# Altium integrated library Seeed-OPL-Display.IntLib: 7 symbols
Pins are listed as number, name and electrical type; pins without a type are passive.

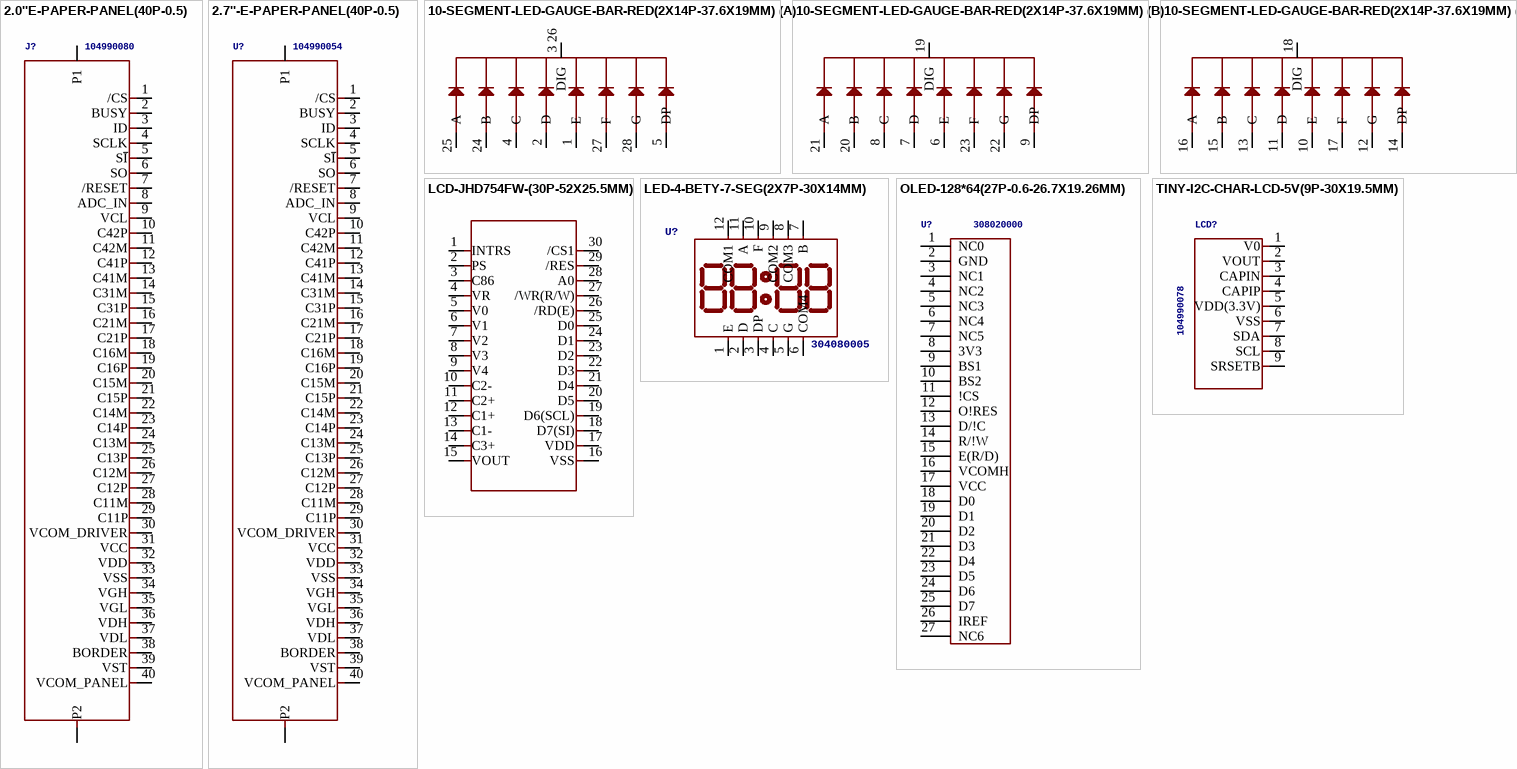
[diagram p0: symbols 2.0''E-PAPER-PANEL(40P-0.5) to TINY-I2C-CHAR-LCD-5V(9P-30X19.5MM)]

## 2.0''E-PAPER-PANEL(40P-0.5)
designator J?, comment 104990080
MPN: EG020BS011
footprint FPC-40P-0.5
pins: 1 /CS, 2 BUSY, 3 ID, 4 SCLK, 5 S~{I}, 6 SO, 7 /RESET, 8 ADC_IN, 9 VCL, 10 C42P, 11 C42M, 12 C41P, 13 C41M, 14 C31M, 15 C31P, 16 C21M, 17 C21P, 18 C16M, 19 C16P, 20 C15M, 21 C15P, 22 C14M, 23 C14P, 24 C13M, 25 C13P, 26 C12M, 27 C12P, 28 C11M, 29 C11P, 30 VCOM_DRIVER, 31 VCC, 32 VDD, 33 VSS, 34 VGH, 35 VGL, 36 VDH, 37 VDL, 38 BORDER, 39 VST, 40 VCOM_PANEL, P1, P2

## 2.7''-E-PAPER-PANEL(40P-0.5)
designator U?, comment 104990054
MPN: EM027AS011
footprint FPC-40P-0.5
pins: 1 /CS, 2 BUSY, 3 ID, 4 SCLK, 5 S~{I}, 6 SO, 7 /RESET, 8 ADC_IN, 9 VCL, 10 C42P, 11 C42M, 12 C41P, 13 C41M, 14 C31M, 15 C31P, 16 C21M, 17 C21P, 18 C16M, 19 C16P, 20 C15M, 21 C15P, 22 C14M, 23 C14P, 24 C13M, 25 C13P, 26 C12M, 27 C12P, 28 C11M, 29 C11P, 30 VCOM_DRIVER, 31 VCC, 32 VDD, 33 VSS, 34 VGH, 35 VGL, 36 VDH, 37 VDL, 38 BORDER, 39 VST, 40 VCOM_PANEL, P1, P2

## 10-SEGMENT-LED-GAUGE-BAR-RED(2X14P-37.6X19MM)
designator LCD?, comment 304080004  (value not drawn)
MPN: SP400561N
footprint LCD2X14P-2.54-37.6X19.0X8.0MM
part A pins: 1 E, 2 D, 3 26 DIG, 4 C, 5 DP, 24 B, 25 A, 27 F, 28 G
part B pins: 6 E, 7 D, 8 C, 9 DP, 19 DIG, 20 B, 21 A, 22 G, 23 F
part C pins: 10 E, 11 D, 12 G, 13 C, 14 DP, 15 B, 16 A, 17 F, 18 DIG

## LCD-JHD754FW-(30P-52X25.5MM)
designator LCD?, comment 308010000  (value not drawn)
MPN: JHD754FW
footprint LCD30P-SMD-0.5-JHD754FW
pins: 1 INTRS, 2 PS (oe), 3 C86 (oe), 4 VR (oe), 5 V0 (oe), 6 V1, 7 V2, 8 V3, 9 V4, 10 C2-, 11 C2+, 12 C1+, 13 C1-, 14 C3+, 15 VOUT, 16 VSS, 17 VDD, 18 D7(SI), 19 D6(SCL), 20 D5, 21 D4, 22 D3, 23 D2, 24 D1, 25 D0, 26 /RD(E) (oe), 27 /WR(R/W) (oe), 28 A0 (oe), 29 /RES, 30 /CS1

## LED-4-BETY-7-SEG(2X7P-30X14MM)
designator U?, comment 304080005
MPN: SYD3642ASR
footprint LCD12-2.54-30.0X14.0X7.3MM
pins: 1 E, 2 D, 3 DP, 4 C, 5 G, 6 COM4, 7 B, 8 COM3, 9 COM2, 10 F, 11 A, 12 COM1

## OLED-128*64(27P-0.6-26.7X19.26MM)
designator U?, comment 308020000
MPN: LY190-128064
footprint OLED27P-0.6
pins: 1 NC0, 2 GND, 3 NC1, 4 NC2, 5 NC3, 6 NC4, 7 NC5, 8 3V3, 9 BS1, 10 BS2, 11 !CS, 12 O!RES, 13 D/!C, 14 R/!W, 15 E(R/D), 16 VCOMH, 17 VCC, 18 D0, 19 D1, 20 D2, 21 D3, 22 D4, 23 D5, 24 D6, 25 D7, 26 IREF, 27 NC6

## TINY-I2C-CHAR-LCD-5V(9P-30X19.5MM)
designator LCD?, comment 104990078
MPN: 12 LCD Breadout
footprint LCD9-1.5-30X19.5MM
pins: 1 V0, 2 VOUT (oe), 3 CAPIN (oe), 4 CAPIP (oe), 5 VDD(3.3V), 6 VSS, 7 SDA, 8 SCL, 9 SRSETB